# Altium schematic symbol library bme680.SchLib: 1 symbol
Pins are listed as number, name and electrical type; pins without a type are passive.

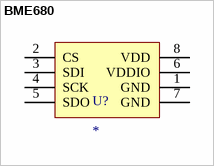
[diagram p0: symbol BME680]

## BME680
designator U?
pins: 1 GND (power), 2 CS (power), 3 SDI (power), 4 SCK (power), 5 SDO (power), 6 VDDIO (power), 7 GND (power), 8 VDD (power)